# Altium footprint library RaspberryPiCM.PcbLib: 1 footprints
Each footprint in its own frame and in the unit in brackets; x right, y up, seen from the top. Pads: shape width x height; smd on the part's side, far side on the other; paste and mask are expansions set on the pad; w line width, h text height; cw(c..) or ccw(c..) is an arc to the next point about the centre after c.
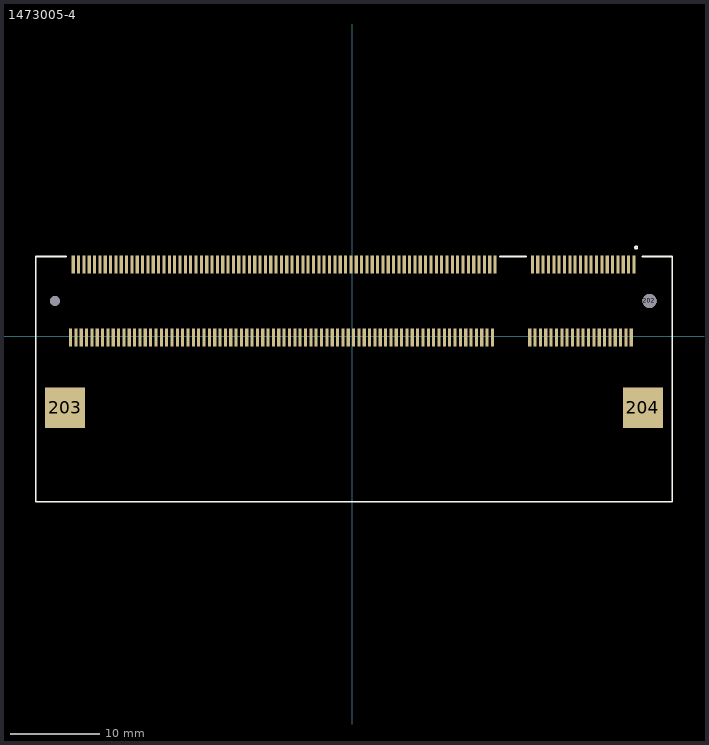
[diagram p0: the footprint, top view; thin cyan lines are the x and y axes]

## 1473005-4 [mm]
pads (204):
  rect 0.35x2 smd: 1(31.65,8.05) 2(31.35,-0.15) 3(31.05,8.05) 4(30.75,-0.15) 5(30.45,8.05) 6(30.15,-0.15) 7(29.85,8.05) 8(29.55,-0.15) 9(29.25,8.05) 10(28.95,-0.15) 11(28.65,8.05) 12(28.35,-0.15) 13(28.05,8.05) 14(27.75,-0.15) 15(27.45,8.05) 16(27.15,-0.15) 17(26.85,8.05) 18(26.55,-0.15) 19(26.25,8.05) 20(25.95,-0.15) 21(25.65,8.05) 22(25.35,-0.15) 23(25.05,8.05) 24(24.75,-0.15) 25(24.45,8.05) 26(24.15,-0.15) 27(23.85,8.05) 28(23.55,-0.15) 29(23.25,8.05) 30(22.95,-0.15) 31(22.65,8.05) 32(22.35,-0.15) 33(22.05,8.05) 34(21.75,-0.15) 35(21.45,8.05) 36(21.15,-0.15) 37(20.85,8.05) 38(20.55,-0.15) 39(20.25,8.05) 40(19.95,-0.15) 41(16.05,8.05) 42(15.75,-0.15) 43(15.45,8.05) 44(15.15,-0.15) 45(14.85,8.05) 46(14.55,-0.15) 47(14.25,8.05) 48(13.95,-0.15) 49(13.65,8.05) 50(13.35,-0.15) 51(13.05,8.05) 52(12.75,-0.15) 53(12.45,8.05) 54(12.15,-0.15) 55(11.85,8.05) 56(11.55,-0.15) 57(11.25,8.05) 58(10.95,-0.15) 59(10.65,8.05) 60(10.35,-0.15) 61(10.05,8.05) 62(9.75,-0.15) 63(9.45,8.05) 64(9.15,-0.15) 65(8.85,8.05) 66(8.55,-0.15) 67(8.25,8.05) 68(7.95,-0.15) 69(7.65,8.05) 70(7.35,-0.15) 71(7.05,8.05) 72(6.75,-0.15) 73(6.45,8.05) 74(6.15,-0.15) 75(5.85,8.05) 76(5.55,-0.15) 77(5.25,8.05) 78(4.95,-0.15) 79(4.65,8.05) 80(4.35,-0.15) 81(4.05,8.05) 82(3.75,-0.15) 83(3.45,8.05) 84(3.15,-0.15) 85(2.85,8.05) 86(2.55,-0.15) 87(2.25,8.05) 88(1.95,-0.15) 89(1.65,8.05) 90(1.35,-0.15) 91(1.05,8.05) 92(0.75,-0.15) 93(0.45,8.05) 94(0.15,-0.15) 95(-0.15,8.05) 96(-0.45,-0.15) 97(-0.75,8.05) 98(-1.05,-0.15) 99(-1.35,8.05) 100(-1.65,-0.15) 101(-1.95,8.05) 102(-2.25,-0.15) 103(-2.55,8.05) 104(-2.85,-0.15) 105(-3.15,8.05) 106(-3.45,-0.15) 107(-3.75,8.05) 108(-4.05,-0.15) 109(-4.35,8.05) 110(-4.65,-0.15) 111(-4.95,8.05) 112(-5.25,-0.15) 113(-5.55,8.05) 114(-5.85,-0.15) 115(-6.15,8.05) 116(-6.45,-0.15) 117(-6.75,8.05) 118(-7.05,-0.15) 119(-7.35,8.05) 120(-7.65,-0.15) 121(-7.95,8.05) 122(-8.25,-0.15) 123(-8.55,8.05) 124(-8.85,-0.15) 125(-9.15,8.05) 126(-9.45,-0.15) 127(-9.75,8.05) 128(-10.05,-0.15) 129(-10.35,8.05) 130(-10.65,-0.15) 131(-10.95,8.05) 132(-11.25,-0.15) 133(-11.55,8.05) 134(-11.85,-0.15) 135(-12.15,8.05) 136(-12.45,-0.15) 137(-12.75,8.05) 138(-13.05,-0.15) 139(-13.35,8.05) 140(-13.65,-0.15) 141(-13.95,8.05) 142(-14.25,-0.15) 143(-14.55,8.05) 144(-14.85,-0.15) 145(-15.15,8.05) 146(-15.45,-0.15) 147(-15.75,8.05) 148(-16.05,-0.15) 149(-16.35,8.05) 150(-16.65,-0.15) 151(-16.95,8.05) 152(-17.25,-0.15) 153(-17.55,8.05) 154(-17.85,-0.15) 155(-18.15,8.05) 156(-18.45,-0.15) 157(-18.75,8.05) 158(-19.05,-0.15) 159(-19.35,8.05) 160(-19.65,-0.15) 161(-19.95,8.05) 162(-20.25,-0.15) 163(-20.55,8.05) 164(-20.85,-0.15) 165(-21.15,8.05) 166(-21.45,-0.15) 167(-21.75,8.05) 168(-22.05,-0.15) 169(-22.35,8.05) 170(-22.65,-0.15) 171(-22.95,8.05) 172(-23.25,-0.15) 173(-23.55,8.05) 174(-23.85,-0.15) 175(-24.15,8.05) 176(-24.45,-0.15) 177(-24.75,8.05) 178(-25.05,-0.15) 179(-25.35,8.05) 180(-25.65,-0.15) 181(-25.95,8.05) 182(-26.25,-0.15) 183(-26.55,8.05) 184(-26.85,-0.15) 185(-27.15,8.05) 186(-27.45,-0.15) 187(-27.75,8.05) 188(-28.05,-0.15) 189(-28.35,8.05) 190(-28.65,-0.15) 191(-28.95,8.05) 192(-29.25,-0.15) 193(-29.55,8.05) 194(-29.85,-0.15) 195(-30.15,8.05) 196(-30.45,-0.15) 197(-30.75,8.05) 198(-31.05,-0.15) 199(-31.35,8.05) 200(-31.65,-0.15)
  round 1.1 hole 1.1: 201(-33.4,3.95)
  round 1.6 hole 1.6: 202(33.4,3.95)
  rect 4.5x4.6 smd: 203(-32.25,-8.05) 204(32.65,-8.05)
L26-Silk Screen Top (Multiple PADS layers...):
  circle w0.2: c31.895,9.95 r0.138
  lines w0.2: -32.171,8.95 -35.55,8.95 -35.55,-18.6 35.95,-18.6 35.95,8.95 32.589,8.95 ; 16.6,8.95 19.557,8.95
3D body: height 0.25, standoff 0, extent -18.1,-24.75 -18.1,-24.75
3D body: height 0.25, standoff 0, extent -37.75,16.525 -37.75,16.525
3D body "SODIMMSocket204Contacts.stp": height 5.71, standoff -0.44, extent -35.8,-17.44 35.8,9.1